# Altium schematic symbol library MC34063AD.SchLib: 1 symbol
Pins are listed as number, name and electrical type; pins without a type are passive.

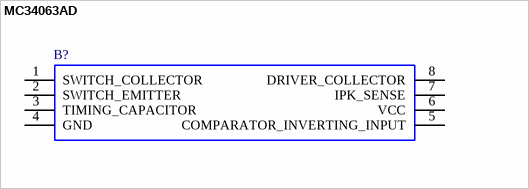
[diagram p0: symbol MC34063AD]

## MC34063AD
designator B?
Step up/down converter,MC34063AD 98pcs; Manufacturer_Name: onsemi; Geometry.Height: 1.75mm; Manufacturer_Part_Number: MC34063AD; Mouser Part Number: 512-MC34063AD; Mouser Price/Stock: http://www.mouser.com/Search/ProductDetail.aspx?qs=qJQOsIEC8WHIuBHtgH5ZSQ%3d%3d; Arrow Part Number: MC34063AD; Arrow Price/Stock: https://www.arrow.com/en/products/mc34063ad/on-semiconductor; Mouser Testing Part Number: *; Mouser Testing Price/Stock: *; Datasheet Link: http://www.onsemi.com/pub/Collateral/MC34063A-D.PDF
footprint SOIC127P600X175-8N
pins: 1 SWITCH_COLLECTOR, 2 SWITCH_EMITTER, 3 TIMING_CAPACITOR, 4 GND, 5 COMPARATOR_INVERTING_INPUT, 6 VCC, 7 IPK_SENSE, 8 DRIVER_COLLECTOR